# Altium schematic symbol library SparkFun-Clocks.SCHLIB: 46 symbols
Pins are listed as number, name and electrical type; pins without a type are passive.

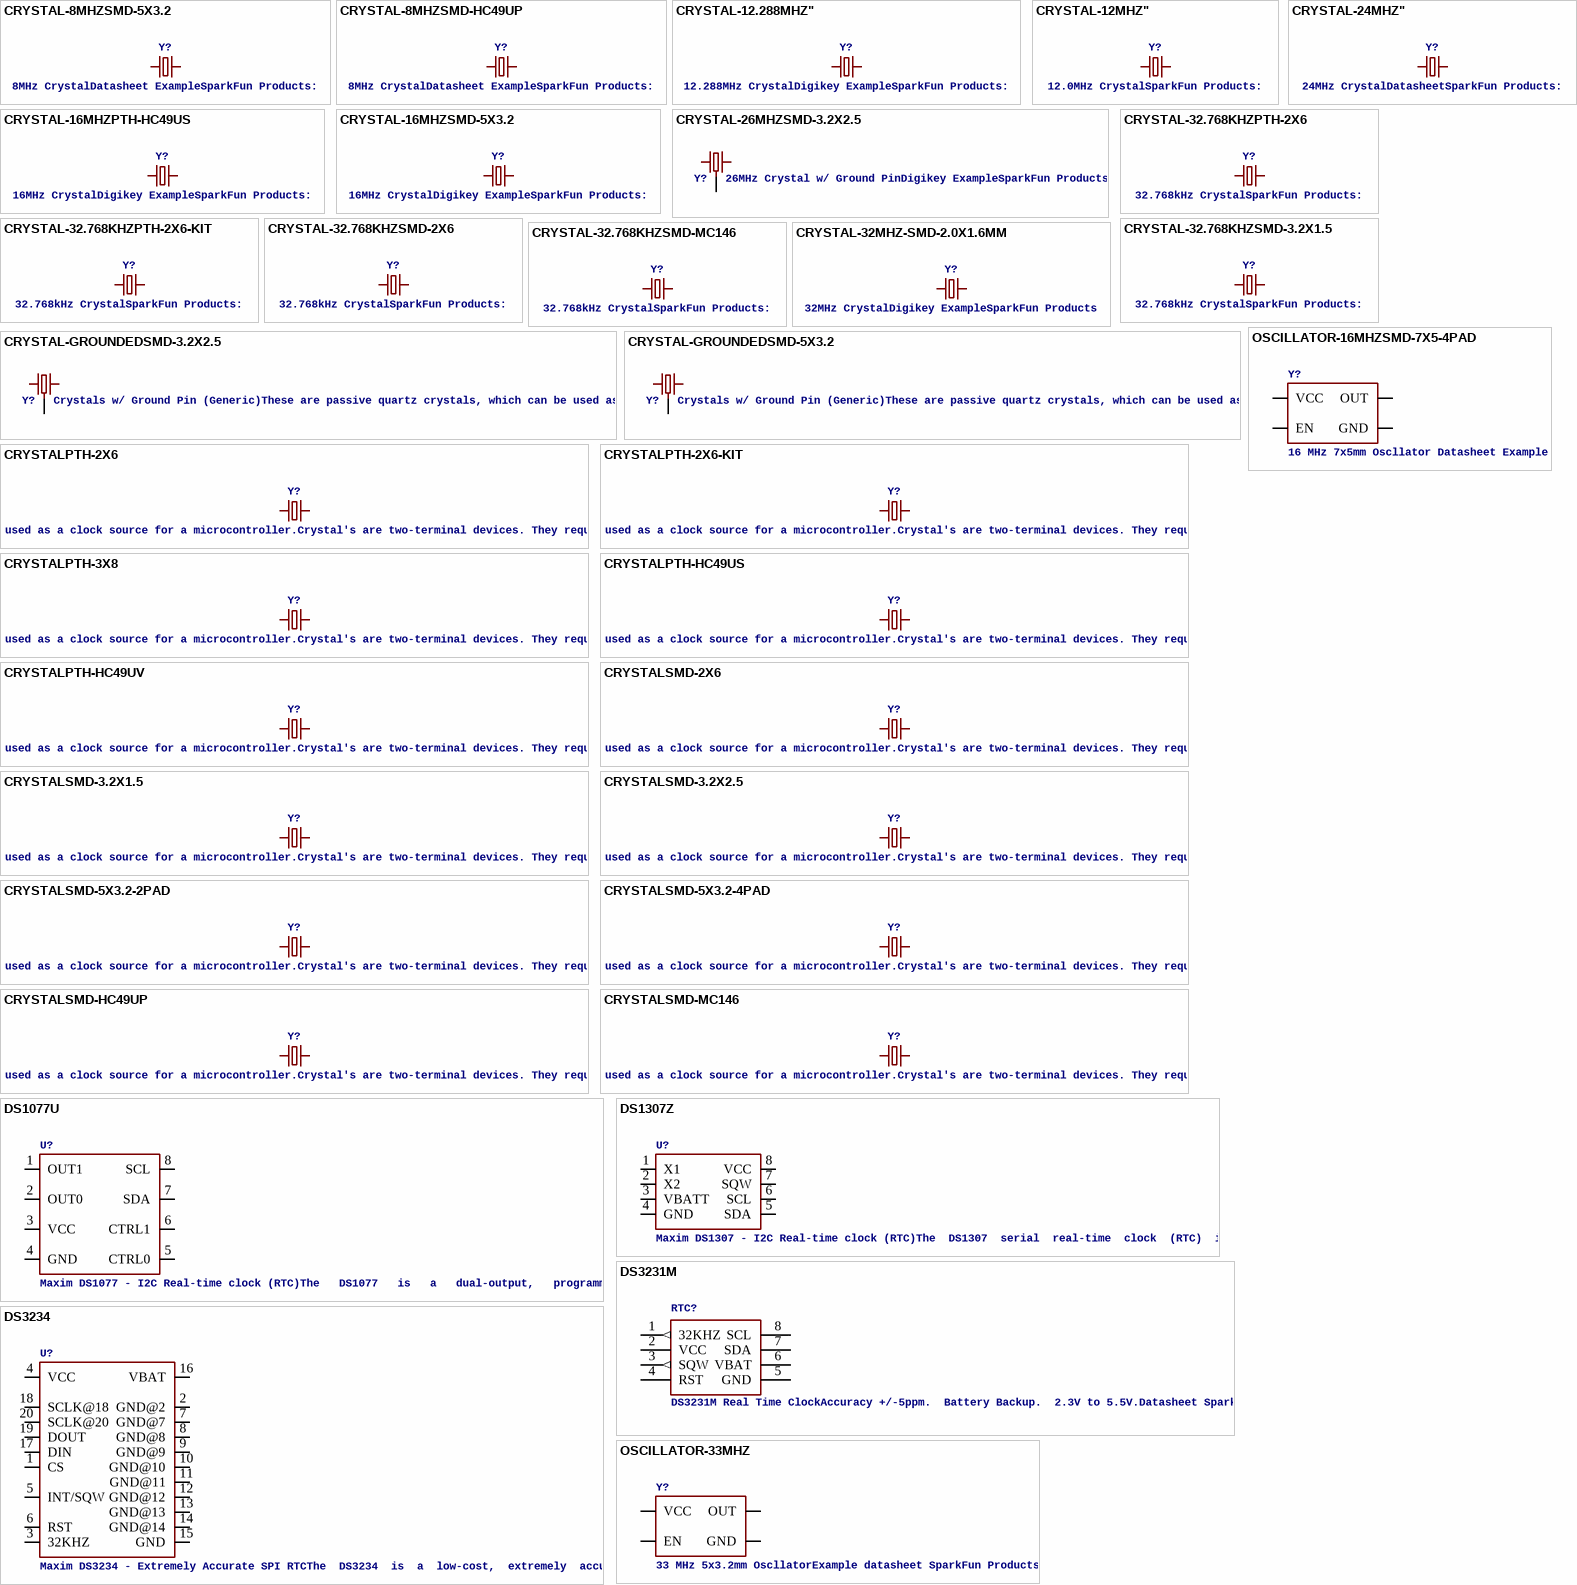
[diagram p0: symbols CRYSTAL-8MHZSMD-5X3.2 to OSCILLATOR-33MHZ]

## CRYSTAL-8MHZSMD-5X3.2
designator Y?, comment 8MHz CrystalDatasheet ExampleSparkFun Products:
GateName_1: G$1; DeviceName: SMD-5X3.2; DeviceSetName: CRYSTAL-8MHZ; PROD_ID: XTAL-09431; SymbolName_1: CRYSTAL; LibraryName: SparkFun-Clocks; Package: CRYSTAL-SMD-5X3.2-4PAD
footprint CRYSTAL-SMD-5X3.2-4PAD
pins: 1, 3 2

## CRYSTAL-8MHZSMD-HC49UP
designator Y?, comment 8MHz CrystalDatasheet ExampleSparkFun Products:
GateName_1: G$1; DeviceName: SMD-HC49UP; DeviceSetName: CRYSTAL-8MHZ; PROD_ID: XTAL-11706; SymbolName_1: CRYSTAL; LibraryName: SparkFun-Clocks; Package: HC49UP
footprint HC49UP
pins: 1, 2

## CRYSTAL-12.288MHZ"
designator Y?, comment 12.288MHz CrystalDigikey ExampleSparkFun Products:
GateName_1: G$1; DeviceName: "; DeviceSetName: CRYSTAL-12.288MHZ; PROD_ID: XTAL-09653; SymbolName_1: CRYSTAL; LibraryName: SparkFun-Clocks; Package: CRYSTAL-SMD-5X3.2-4PAD
footprint CRYSTAL-SMD-5X3.2-4PAD
pins: 1, 3 2

## CRYSTAL-12MHZ"
designator Y?, comment 12.0MHz CrystalSparkFun Products:
GateName_1: G$1; DeviceName: "; DeviceSetName: CRYSTAL-12MHZ; PROD_ID: XTAL-08297; SymbolName_1: CRYSTAL; LibraryName: SparkFun-Clocks; Package: CRYSTAL-SMD-5X3.2-4PAD
footprint CRYSTAL-SMD-5X3.2-4PAD
pins: 1, 3 2

## CRYSTAL-16MHZPTH-HC49US
designator Y?, comment 16MHz CrystalDigikey ExampleSparkFun Products:
GateName_1: G$1; DeviceName: PTH-HC49US; DeviceSetName: CRYSTAL-16MHZ; PROD_ID: XTAL-08181; SF_ID: COM-00536; SymbolName_1: CRYSTAL; LibraryName: SparkFun-Clocks; Package: HC49US
footprint HC49US
pins: 1, 2

## CRYSTAL-16MHZSMD-5X3.2
designator Y?, comment 16MHz CrystalDigikey ExampleSparkFun Products:
GateName_1: G$1; DeviceName: SMD-5X3.2; DeviceSetName: CRYSTAL-16MHZ; PROD_ID: XTAL-08218; SF_ID: COM-00094; SymbolName_1: CRYSTAL; LibraryName: SparkFun-Clocks; Package: CRYSTAL-SMD-5X3.2-4PAD
footprint CRYSTAL-SMD-5X3.2-4PAD
pins: 1, 3 2

## CRYSTAL-24MHZ"
designator Y?, comment 24MHz CrystalDatasheetSparkFun Products:
GateName_1: G$1; DeviceName: "; DeviceSetName: CRYSTAL-24MHZ; PROD_ID: XTAL-08298; SF_ID: COM-08581; SymbolName_1: CRYSTAL; LibraryName: SparkFun-Clocks; Package: CRYSTAL-SMD-5X3.2-4PAD
footprint CRYSTAL-SMD-5X3.2-4PAD
pins: 1, 3 2

## CRYSTAL-26MHZSMD-3.2X2.5
designator Y?, comment 26MHz Crystal w/ Ground PinDigikey ExampleSparkFun Products:
GateName_1: G$1; SymbolName_1: CRYSTAL-GND; DeviceName: SMD-3.2X2.5; DeviceSetName: CRYSTAL-26MHZ; PROD_ID: XTAL-12454; LibraryName: SparkFun-Clocks; Package: CRYSTAL-SMD-3.2X2.5MM
footprint CRYSTAL-SMD-3.2X2.5MM
pins: 1, 2 4 3, 3 2

## CRYSTAL-32.768KHZPTH-2X6
designator Y?, comment 32.768kHz CrystalSparkFun Products:
GateName_1: G$1; DeviceName: PTH-2X6; DeviceSetName: CRYSTAL-32.768KHZ; PROD_ID: XTAL-10112; SymbolName_1: CRYSTAL; LibraryName: SparkFun-Clocks; Package: CRYSTAL-PTH-2X6-CYL
footprint CRYSTAL-PTH-2X6-CYL
pins: 1, 2

## CRYSTAL-32.768KHZPTH-2X6-KIT
designator Y?, comment 32.768kHz CrystalSparkFun Products:
GateName_1: G$1; DeviceName: PTH-2X6-KIT; DeviceSetName: CRYSTAL-32.768KHZ; PROD_ID: XTAL-10112; SymbolName_1: CRYSTAL; LibraryName: SparkFun-Clocks; Package: CRYSTAL-PTH-2X6-CYL-KIT
footprint CRYSTAL-PTH-2X6-CYL-KIT
pins: 1, 2

## CRYSTAL-32.768KHZSMD-2X6
designator Y?, comment 32.768kHz CrystalSparkFun Products:
GateName_1: G$1; DeviceName: SMD-2X6; DeviceSetName: CRYSTAL-32.768KHZ; PROD_ID: XTAL-07894; SymbolName_1: CRYSTAL; LibraryName: SparkFun-Clocks; Package: CRYSTAL-SMD-2X6-CYL
footprint CRYSTAL-SMD-2X6-CYL
pins: X1 1, X2 2

## CRYSTAL-32.768KHZSMD-3.2X1.5
designator Y?, comment 32.768kHz CrystalSparkFun Products:
GateName_1: G$1; DeviceName: SMD-3.2X1.5; DeviceSetName: CRYSTAL-32.768KHZ; PROD_ID: XTAL-13062; SymbolName_1: CRYSTAL; LibraryName: SparkFun-Clocks; Package: CRYSTAL-SMD-3.2X1.5MM
footprint CRYSTAL-SMD-3.2X1.5MM
pins: P$1 1, P$2 2

## CRYSTAL-32.768KHZSMD-MC146
designator Y?, comment 32.768kHz CrystalSparkFun Products:
GateName_1: G$1; DeviceName: SMD-MC146; DeviceSetName: CRYSTAL-32.768KHZ; PROD_ID: XTAL-09342; SymbolName_1: CRYSTAL; LibraryName: SparkFun-Clocks; Package: CRYSTAL-SMD-MC-146
footprint CRYSTAL-SMD-MC-146
pins: P$1 2, P$2 1

## CRYSTAL-32MHZ-SMD-2.0X1.6MM
designator Y?, comment 32MHz CrystalDigikey ExampleSparkFun Products
GateName_1: G$1; DeviceName: -SMD-2.0X1.6MM; DeviceSetName: CRYSTAL-32MHZ; PROD_ID: XTAL-13459; SymbolName_1: CRYSTAL; LibraryName: SparkFun-Clocks; Package: CRYSTAL-SMD-2.0X1.6MM
footprint CRYSTAL-SMD-2.0X1.6MM
pins: 1, 3 2

## CRYSTAL-GROUNDEDSMD-3.2X2.5
designator Y?, comment Crystals w/ Ground Pin (Generic)These are passive quartz crystals, which can be used as a clock source for a microcontroller.Crystal's are usually two-terminal devices. A third terminal may be optionally connected to ground, as recommended by the manufaturer.
GateName_1: G$1; SymbolName_1: CRYSTAL-GND; DeviceName: SMD-3.2X2.5; DeviceSetName: CRYSTAL-GROUNDED; LibraryName: SparkFun-Clocks; Package: CRYSTAL-SMD-3.2X2.5MM
footprint CRYSTAL-SMD-3.2X2.5MM
pins: 1, 2 4 3, 3 2

## CRYSTAL-GROUNDEDSMD-5X3.2
designator Y?, comment Crystals w/ Ground Pin (Generic)These are passive quartz crystals, which can be used as a clock source for a microcontroller.Crystal's are usually two-terminal devices. A third terminal may be optionally connected to ground, as recommended by the manufaturer.
GateName_1: G$1; SymbolName_1: CRYSTAL-GND; DeviceName: SMD-5X3.2; DeviceSetName: CRYSTAL-GROUNDED; LibraryName: SparkFun-Clocks; Package: CRYSTAL-SMD-5X3.2-4PAD
footprint CRYSTAL-SMD-5X3.2-4PAD
pins: 1 2, 2 4 3, 3 1

## CRYSTALPTH-2X6
designator Y?, comment Crystals (Generic)These are passive quartz crystals, which can be used as a clock source for a microcontroller.Crystal's are two-terminal devices. They require external "load" capacitors to generate an oscillating signal.
GateName_1: G$1; DeviceName: PTH-2X6; SymbolName_1: CRYSTAL; LibraryName: SparkFun-Clocks; DeviceSetName: CRYSTAL; Package: CRYSTAL-PTH-2X6-CYL
footprint CRYSTAL-PTH-2X6-CYL
pins: 1, 2

## CRYSTALPTH-2X6-KIT
designator Y?, comment Crystals (Generic)These are passive quartz crystals, which can be used as a clock source for a microcontroller.Crystal's are two-terminal devices. They require external "load" capacitors to generate an oscillating signal.
GateName_1: G$1; DeviceName: PTH-2X6-KIT; SymbolName_1: CRYSTAL; LibraryName: SparkFun-Clocks; DeviceSetName: CRYSTAL; Package: CRYSTAL-PTH-2X6-CYL-KIT
footprint CRYSTAL-PTH-2X6-CYL-KIT
pins: 1, 2

## CRYSTALPTH-3X8
designator Y?, comment Crystals (Generic)These are passive quartz crystals, which can be used as a clock source for a microcontroller.Crystal's are two-terminal devices. They require external "load" capacitors to generate an oscillating signal.
GateName_1: G$1; DeviceName: PTH-3X8; SymbolName_1: CRYSTAL; LibraryName: SparkFun-Clocks; DeviceSetName: CRYSTAL; Package: CRYSTAL-PTH-3X8-CYL
footprint CRYSTAL-PTH-3X8-CYL
pins: 1, 2

## CRYSTALPTH-HC49US
designator Y?, comment Crystals (Generic)These are passive quartz crystals, which can be used as a clock source for a microcontroller.Crystal's are two-terminal devices. They require external "load" capacitors to generate an oscillating signal.
GateName_1: G$1; DeviceName: PTH-HC49US; SymbolName_1: CRYSTAL; LibraryName: SparkFun-Clocks; DeviceSetName: CRYSTAL; Package: HC49US
footprint HC49US
pins: 1, 2

## CRYSTALPTH-HC49UV
designator Y?, comment Crystals (Generic)These are passive quartz crystals, which can be used as a clock source for a microcontroller.Crystal's are two-terminal devices. They require external "load" capacitors to generate an oscillating signal.
GateName_1: G$1; DeviceName: PTH-HC49UV; SymbolName_1: CRYSTAL; LibraryName: SparkFun-Clocks; DeviceSetName: CRYSTAL; Package: HC49U
footprint HC49U
pins: 1, 2

## CRYSTALSMD-2X6
designator Y?, comment Crystals (Generic)These are passive quartz crystals, which can be used as a clock source for a microcontroller.Crystal's are two-terminal devices. They require external "load" capacitors to generate an oscillating signal.
GateName_1: G$1; DeviceName: SMD-2X6; SymbolName_1: CRYSTAL; LibraryName: SparkFun-Clocks; DeviceSetName: CRYSTAL; Package: CRYSTAL-SMD-2X6-CYL
footprint CRYSTAL-SMD-2X6-CYL
pins: X1 1, X2 2

## CRYSTALSMD-3.2X1.5
designator Y?, comment Crystals (Generic)These are passive quartz crystals, which can be used as a clock source for a microcontroller.Crystal's are two-terminal devices. They require external "load" capacitors to generate an oscillating signal.
GateName_1: G$1; DeviceName: SMD-3.2X1.5; SymbolName_1: CRYSTAL; LibraryName: SparkFun-Clocks; DeviceSetName: CRYSTAL; Package: CRYSTAL-SMD-3.2X1.5MM
footprint CRYSTAL-SMD-3.2X1.5MM
pins: P$1 1, P$2 2

## CRYSTALSMD-3.2X2.5
designator Y?, comment Crystals (Generic)These are passive quartz crystals, which can be used as a clock source for a microcontroller.Crystal's are two-terminal devices. They require external "load" capacitors to generate an oscillating signal.
GateName_1: G$1; DeviceName: SMD-3.2X2.5; SymbolName_1: CRYSTAL; LibraryName: SparkFun-Clocks; DeviceSetName: CRYSTAL; Package: CRYSTAL-SMD-3.2X2.5MM
footprint CRYSTAL-SMD-3.2X2.5MM
pins: 1, 3 2

## CRYSTALSMD-5X3.2-2PAD
designator Y?, comment Crystals (Generic)These are passive quartz crystals, which can be used as a clock source for a microcontroller.Crystal's are two-terminal devices. They require external "load" capacitors to generate an oscillating signal.
GateName_1: G$1; DeviceName: SMD-5X3.2-2PAD; SymbolName_1: CRYSTAL; LibraryName: SparkFun-Clocks; DeviceSetName: CRYSTAL; Package: CRYSTAL-SMD-5X3.2-2PAD
footprint CRYSTAL-SMD-5X3.2-2PAD
pins: P$1 1, P$2 2

## CRYSTALSMD-5X3.2-4PAD
designator Y?, comment Crystals (Generic)These are passive quartz crystals, which can be used as a clock source for a microcontroller.Crystal's are two-terminal devices. They require external "load" capacitors to generate an oscillating signal.
GateName_1: G$1; DeviceName: SMD-5X3.2-4PAD; SymbolName_1: CRYSTAL; LibraryName: SparkFun-Clocks; DeviceSetName: CRYSTAL; Package: CRYSTAL-SMD-5X3.2-4PAD
footprint CRYSTAL-SMD-5X3.2-4PAD
pins: 1, 3 2

## CRYSTALSMD-HC49UP
designator Y?, comment Crystals (Generic)These are passive quartz crystals, which can be used as a clock source for a microcontroller.Crystal's are two-terminal devices. They require external "load" capacitors to generate an oscillating signal.
GateName_1: G$1; DeviceName: SMD-HC49UP; SymbolName_1: CRYSTAL; LibraryName: SparkFun-Clocks; DeviceSetName: CRYSTAL; Package: HC49UP
footprint HC49UP
pins: 1, 2

## CRYSTALSMD-MC146
designator Y?, comment Crystals (Generic)These are passive quartz crystals, which can be used as a clock source for a microcontroller.Crystal's are two-terminal devices. They require external "load" capacitors to generate an oscillating signal.
GateName_1: G$1; DeviceName: SMD-MC146; SymbolName_1: CRYSTAL; LibraryName: SparkFun-Clocks; DeviceSetName: CRYSTAL; Package: CRYSTAL-SMD-MC-146
footprint CRYSTAL-SMD-MC-146
pins: P$1 2, P$2 1

## DS1077U
designator U?, comment Maxim DS1077 - I2C Real-time clock (RTC)The   DS1077   is   a   dual-output,   programmable,   fixed-frequency   oscillator   requiring   no   external   components for operation. The DS1077 can be used as a processor-controlled frequency synthesizer or as  a  standalone  oscillator.The  DS1077  features  a  2-wire  serial  interface  that  allows  in-circuit  on-the-fly  programming  of the  programmable  prescalers  (P0  &  P1)  and  divider  (N)  with  the  desired  values  being  stored  in  NV  (EEPROM)   memory.SparkFun Products: Datasheet
GateName_1: G$1; DeviceName: U; PROD_ID: IC-09075; SymbolName_1: DS1077; LibraryName: SparkFun-Clocks; DeviceSetName: DS1077; Package: SO08-0.15
footprint SO08-0.15
pins: 1 OUT1, 2 OUT0, 3 VCC, 4 GND, 5 CTRL0, 6 CTRL1, 7 SDA, 8 SCL

## DS1307Z
designator U?, comment Maxim DS1307 - I2C Real-time clock (RTC)The  DS1307  serial  real-time  clock  (RTC)  is  a  low-power, full binary-coded decimal (BCD) clock/calendar plus  56  bytes  of  NV  SRAM.  Address  and  data  are transferred  serially  through  an  I2C,  bidirectional  bus. The clock/calendar provides seconds, minutes, hours, day,  date,  month,  and  year  information.SparkFun Products: Datasheet
GateName_1: G$1; DeviceName: Z; PROD_ID: IC-08138; SymbolName_1: DS1307; LibraryName: SparkFun-Clocks; DeviceSetName: DS1307; Package: SO08-0.15
footprint SO08-0.15
pins: 1 X1, 2 X2, 3 VBATT, 4 GND, 5 SDA, 6 SCL, 7 SQW, 8 VCC

## DS3231M
designator RTC?, comment DS3231M Real Time ClockAccuracy +/-5ppm.  Battery Backup.  2.3V to 5.5V.Datasheet SparkFun Products
GateName_1: G$1; PROD_ID: IC-11985; SymbolName_1: DS3231M; LibraryName: SparkFun-Clocks; DeviceSetName: DS3231M; Package: SO08
footprint SO08
pins: 1 32KHZ (out), 2 VCC (power), 3 SQW (out), 4 RST, 5 GND (power), 6 VBAT (power), 7 SDA, 8 SCL

## DS3234
designator U?, comment Maxim DS3234 - Extremely Accurate SPI RTCThe  DS3234  is  a  low-cost,  extremely  accurate  SPIâ„¢  bus real-time clock (RTC) with an integrated temperature-compensated crystal oscillator (TCXO) and crystal.SparkFun Products: Datasheet
GateName_1: G$1; PROD_ID: IC-10016; SF_ID: COM-10079; SymbolName_1: DS3234; LibraryName: SparkFun-Clocks; DeviceSetName: DS3234; Package: SO20-0.3
footprint SO20-0.3
pins: 1 CS, 2 GND@2, 3 32KHZ, 4 VCC, 5 INT/SQW, 6 RST, 7 GND@7, 8 GND@8, 9 GND@9, 10 GND@10, 11 GND@11, 12 GND@12, 13 GND@13, 14 GND@14, 15 GND, 16 VBAT, 17 DIN, 18 SCLK@18, 19 DOUT, 20 SCLK@20

## OSCILLATOR-16MHZSMD-7X5-4PAD
designator Y?, comment 16 MHz 7x5mm Oscllator Datasheet Example
GateName_1: G$1; SymbolName_1: OSCILLATOR; DeviceName: SMD-7X5-4PAD; DeviceSetName: OSCILLATOR-16MHZ; PROD_ID: XTAL-11225; LibraryName: SparkFun-Clocks; Package: OSCILLATOR-SMD-7X5-4PAD
footprint OSCILLATOR-SMD-7X5-4PAD
pins: 1 EN, 2 GND, 3 OUT, 4 VCC

## OSCILLATOR-33MHZ
designator Y?, comment 33 MHz 5x3.2mm OscllatorExample datasheet SparkFun Products:
GateName_1: G$1; SymbolName_1: OSCILLATOR; DeviceSetName: OSCILLATOR-33MHZ; PROD_ID: XTAL-11986; LibraryName: SparkFun-Clocks; Package: OSCILLATOR-SMD-5X3.2
footprint OSCILLATOR-SMD-5X3.2
pins: 1 EN, 2 GND, 3 OUT, 4 VCC

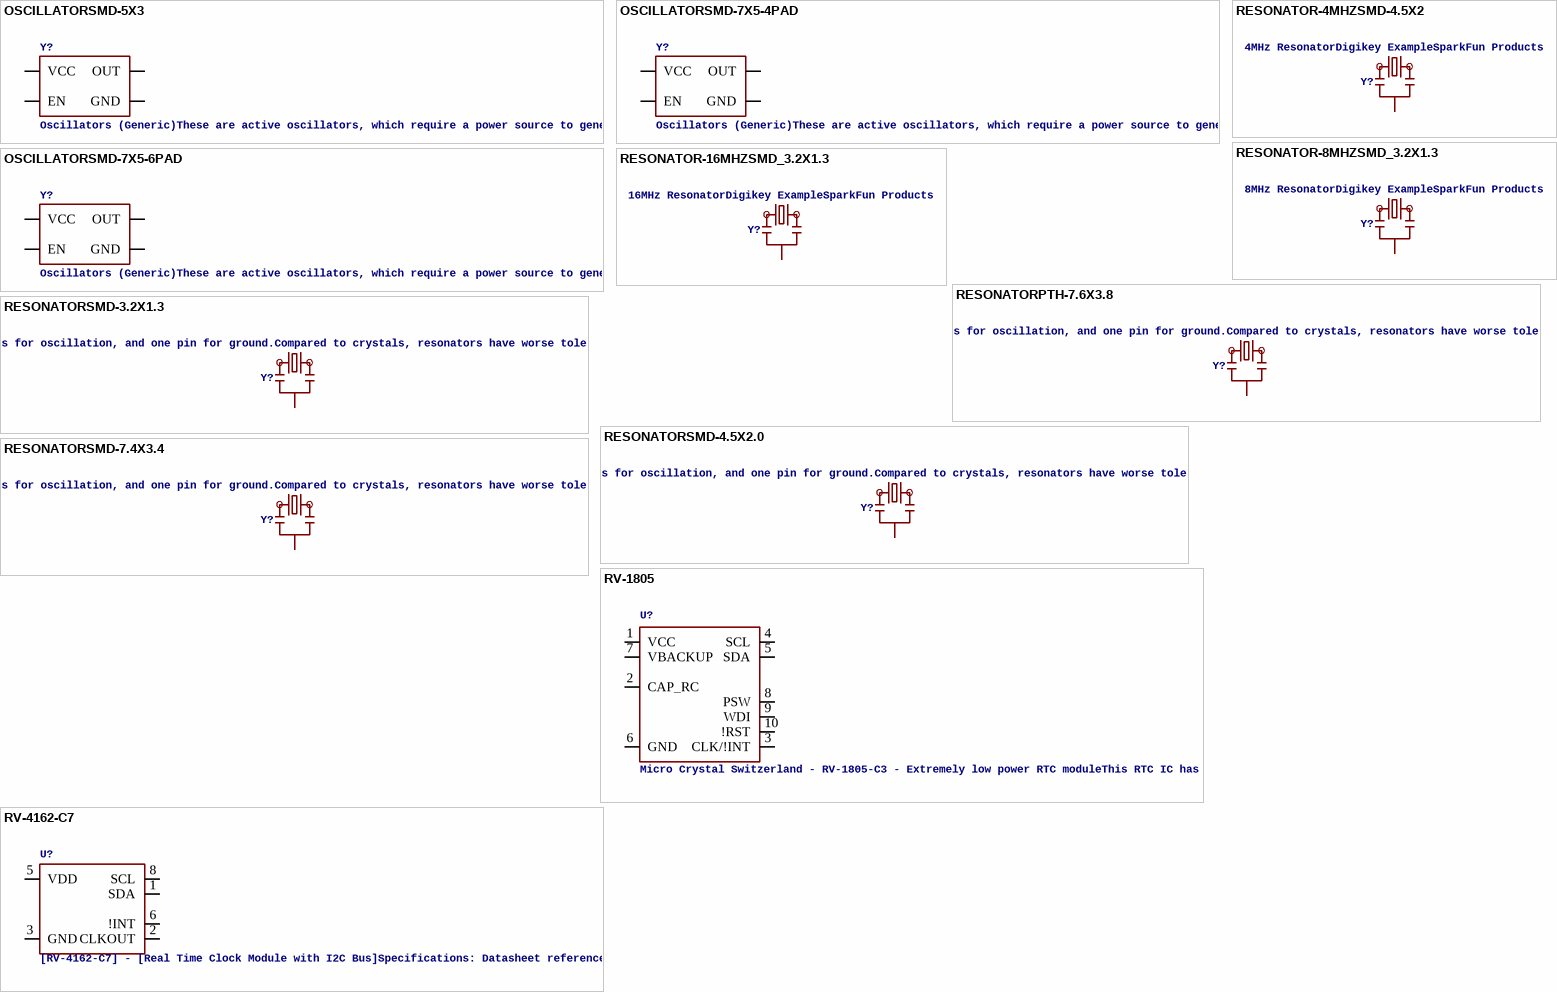
[diagram p1: symbols OSCILLATORSMD-5X3 to RV-4162-C7]

## OSCILLATORSMD-5X3
designator Y?, comment Oscillators (Generic)These are active oscillators, which require a power source to generate their clock output. Most oscillators are configured to generate a set frequency (e.g. 16MHz).They have four pins: power, ground, output, and an enable input.
GateName_1: G$1; DeviceName: SMD-5X3; SymbolName_1: OSCILLATOR; LibraryName: SparkFun-Clocks; DeviceSetName: OSCILLATOR; Package: OSCILLATOR-SMD-5X3.2
footprint OSCILLATOR-SMD-5X3.2
pins: 1 EN, 2 GND, 3 OUT, 4 VCC

## OSCILLATORSMD-7X5-4PAD
designator Y?, comment Oscillators (Generic)These are active oscillators, which require a power source to generate their clock output. Most oscillators are configured to generate a set frequency (e.g. 16MHz).They have four pins: power, ground, output, and an enable input.
GateName_1: G$1; DeviceName: SMD-7X5-4PAD; SymbolName_1: OSCILLATOR; LibraryName: SparkFun-Clocks; DeviceSetName: OSCILLATOR; Package: OSCILLATOR-SMD-7X5-4PAD
footprint OSCILLATOR-SMD-7X5-4PAD
pins: 1 EN, 2 GND, 3 OUT, 4 VCC

## OSCILLATORSMD-7X5-6PAD
designator Y?, comment Oscillators (Generic)These are active oscillators, which require a power source to generate their clock output. Most oscillators are configured to generate a set frequency (e.g. 16MHz).They have four pins: power, ground, output, and an enable input.
GateName_1: G$1; DeviceName: SMD-7X5-6PAD; SymbolName_1: OSCILLATOR; LibraryName: SparkFun-Clocks; DeviceSetName: OSCILLATOR; Package: OSCILLATOR-SMD-7.5X5.2-6PIN
footprint OSCILLATOR-SMD-7.5X5.2-6PIN
pins: 1 EN, 2 GND, 3 OUT, 4 VCC

## RESONATOR-4MHZSMD-4.5X2
designator Y?, comment 4MHz ResonatorDigikey ExampleSparkFun Products
GateName_1: G$1; DeviceName: SMD-4.5X2; DeviceSetName: RESONATOR-4MHZ; PROD_ID: XTAL-12492; SymbolName_1: RESONATOR; LibraryName: SparkFun-Clocks; Package: RESONATOR-SMD-4.5X2.0
footprint RESONATOR-SMD-4.5X2.0
pins: 1, 2, 3

## RESONATOR-8MHZSMD_3.2X1.3
designator Y?, comment 8MHz ResonatorDigikey ExampleSparkFun Products
GateName_1: G$1; DeviceName: SMD_3.2X1.3; DeviceSetName: RESONATOR-8MHZ; PROD_ID: XTAL-08895; SymbolName_1: RESONATOR; LibraryName: SparkFun-Clocks; Package: RESONATOR-SMD-3.2X1.3
footprint RESONATOR-SMD-3.2X1.3
pins: 1, 2, 3

## RESONATOR-16MHZSMD_3.2X1.3
designator Y?, comment 16MHz ResonatorDigikey ExampleSparkFun Products
GateName_1: G$1; DeviceName: SMD_3.2X1.3; DeviceSetName: RESONATOR-16MHZ; PROD_ID: XTAL-08900; SymbolName_1: RESONATOR; LibraryName: SparkFun-Clocks; Package: RESONATOR-SMD-3.2X1.3
footprint RESONATOR-SMD-3.2X1.3
pins: 1, 2, 3

## RESONATORPTH-7.6X3.8
designator Y?, comment Resonators (Generic)Ceramic resonators are clock-generating components, often used to control timing in microcontrollers. They usually have 3 pins: two pins for oscillation, and one pin for ground.Compared to crystals, resonators have worse tolerance, but are usually much cheaper. Plus, they have built-in load capacitors!These devices are used on boards like the Arduino Pro 8MHz and Arduino Pro 16MHz.
GateName_1: G$1; DeviceName: PTH-7.6X3.8; SymbolName_1: RESONATOR; LibraryName: SparkFun-Clocks; DeviceSetName: RESONATOR; Package: RESONATOR-PTH-7.6X3.8
footprint RESONATOR-PTH-7.6X3.8
pins: 1, 2, 3

## RESONATORSMD-3.2X1.3
designator Y?, comment Resonators (Generic)Ceramic resonators are clock-generating components, often used to control timing in microcontrollers. They usually have 3 pins: two pins for oscillation, and one pin for ground.Compared to crystals, resonators have worse tolerance, but are usually much cheaper. Plus, they have built-in load capacitors!These devices are used on boards like the Arduino Pro 8MHz and Arduino Pro 16MHz.
GateName_1: G$1; DeviceName: SMD-3.2X1.3; SymbolName_1: RESONATOR; LibraryName: SparkFun-Clocks; DeviceSetName: RESONATOR; Package: RESONATOR-SMD-3.2X1.3
footprint RESONATOR-SMD-3.2X1.3
pins: 1, 2, 3

## RESONATORSMD-4.5X2.0
designator Y?, comment Resonators (Generic)Ceramic resonators are clock-generating components, often used to control timing in microcontrollers. They usually have 3 pins: two pins for oscillation, and one pin for ground.Compared to crystals, resonators have worse tolerance, but are usually much cheaper. Plus, they have built-in load capacitors!These devices are used on boards like the Arduino Pro 8MHz and Arduino Pro 16MHz.
GateName_1: G$1; DeviceName: SMD-4.5X2.0; SymbolName_1: RESONATOR; LibraryName: SparkFun-Clocks; DeviceSetName: RESONATOR; Package: RESONATOR-SMD-4.5X2.0
footprint RESONATOR-SMD-4.5X2.0
pins: 1, 2, 3

## RESONATORSMD-7.4X3.4
designator Y?, comment Resonators (Generic)Ceramic resonators are clock-generating components, often used to control timing in microcontrollers. They usually have 3 pins: two pins for oscillation, and one pin for ground.Compared to crystals, resonators have worse tolerance, but are usually much cheaper. Plus, they have built-in load capacitors!These devices are used on boards like the Arduino Pro 8MHz and Arduino Pro 16MHz.
GateName_1: G$1; DeviceName: SMD-7.4X3.4; SymbolName_1: RESONATOR; LibraryName: SparkFun-Clocks; DeviceSetName: RESONATOR; Package: RESONATOR-SMD-7.4X3.4
footprint RESONATOR-SMD-7.4X3.4
pins: 1, 2, 3

## RV-1805
designator U?, comment Micro Crystal Switzerland - RV-1805-C3 - Extremely low power RTC moduleThis RTC IC has been specially designed for ultimate low current consumption of typically 60 nA @ VDD 3.0V for 32.768 kHz XTAL mode. Additionally, there is an RC-Mode consuming only 17nA and an autocalibrated RC-mode consuming 22nA which permits to operate this RTC module several hours at Backup Supply Voltage using low-cost MLCC. The very small SMT ceramic-package combines the 32.768 kHz crystal unit with the CMOS-based oscillator and real-time-clock IC.
GateName_1: U1; PROD_ID: IC-13900; SymbolName_1: RV-1805; LibraryName: SparkFun-Clocks; DeviceSetName: RV-1805; Package: RV-1805
footprint RV-1805
pins: 1 VCC, 2 CAP_RC, 3 CLK/!INT, 4 SCL, 5 SDA, 6 GND, 7 VBACKUP, 8 PSW, 9 WDI, 10 !RST

## RV-4162-C7
designator U?, comment [RV-4162-C7] - [Real Time Clock Module with I2C Bus]Specifications: Datasheet referenced for footprintExample device(s):
GateName_1: G$1; PROD_ID: IC-13900; SymbolName_1: RV-4162-C7; LibraryName: SparkFun-Clocks; DeviceSetName: RV-4162-C7; Package: RV-4162-C7-SMT
footprint RV-4162-C7-SMT
pins: 1 SDA, 2 CLKOUT, 3 GND, 5 VDD, 6 !INT, 8 SCL